# Altium schematic symbol library Infineon IPM.SchLib: 1 symbol
Pins are listed as number, name and electrical type; pins without a type are passive.

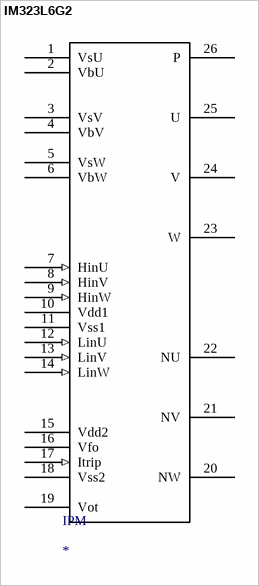
[diagram p0: symbol IM323L6G2]

## IM323L6G2
designator IPM
Parameter 1: *
footprint IM323L6G2
pins: 1 VsU "U-phase high-side floating IC supply offset voltage", 2 VbU "U-phase high-side floating IC supply voltage", 3 VsV "V-phase high-side floating IC supply offset voltage", 4 VbV "V-phase high-side floating IC supply voltage", 5 VsW "W-phase high-side floating IC supply offset voltage", 6 VbW "W-phase high-side floating IC supply voltage", 7 HinU (in), 8 HinV (in), 9 HinW (in), 10 Vdd1 (power) "Low-side control supply", 11 Vss1 (power) "Low-side control negative supply", 12 LinU (in), 13 LinV (in), 14 LinW (in), 15 Vdd2 (power) "Low-side control supply", 16 Vfo (oc) "Fault-output", 17 Itrip (in) "Over-current shutdown input", 18 Vss2 (power) "Low-side control negative supply", 19 Vot "Temperature output", 20 NW, 21 NV, 22 NU, 23 W, 24 V, 25 U, 26 P